# Altium schematic symbol library ESQ-104-14-G-D.SchLib: 1 symbol
Pins are listed as number, name and electrical type; pins without a type are passive.

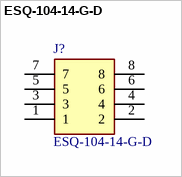
[diagram p0: symbol ESQ-104-14-G-D]

## ESQ-104-14-G-D
designator J?
8 Position, Elevated Socket Strip, 0.100&quot; Pitch; Manufacturer_Name: SAMTEC; Manufacturer_Part_Number: ESQ-104-14-G-D; Mouser Part Number: 200-ESQ10414GD; Mouser Price/Stock: https://www.mouser.co.uk/ProductDetail/Samtec/ESQ-104-14-G-D?qs=92ilVni64gyTjYk0W1u1kw%3D%3D; Arrow Part Number: ESQ-104-14-G-D; Arrow Price/Stock: https://www.arrow.com/en/products/esq-104-14-g-d/samtec; Datasheet Link: http://suddendocs.samtec.com/prints/esq-1xx-xx-x-x-xxx-xx-x-xx-mkt.pdf
footprint ESQ-104-Y-X-D
pins: 1, 2, 3, 4, 5, 6, 7, 8